# EAGLE library part STM32G030F6P6TR (library eltassan)
Arm® Cortex®-M0+ 32-bit MCU, up to 64 KB Flash, 8 KB RAM, 2x USART, timers, ADC, comm. I/Fs, 2.0-3.6V
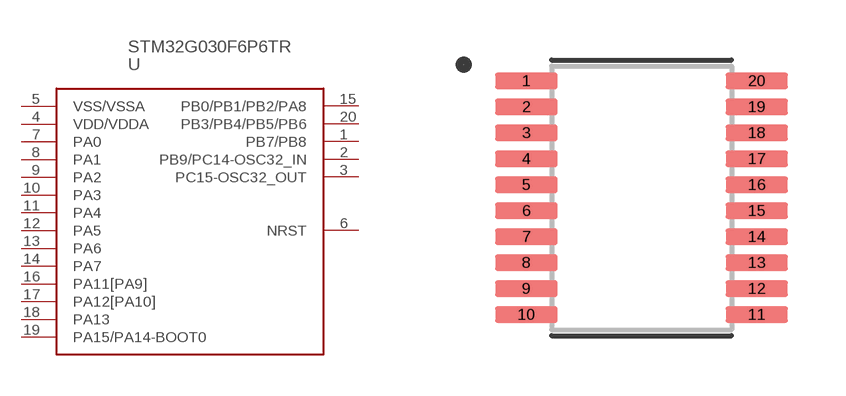
[diagram p0: symbol with the pads of TSSOP20; footprint TSSOP20]

Designator prefix U

## STM32G030F6P6TR  [TSSOP20]
1  PB7/PB8
2  PB9/PC14-OSC32_IN
3  PC15-OSC32_OUT
4  VDD/VDDA  pwr
5  VSS/VSSA  pwr
6  NRST
7  PA0
8  PA1
9  PA2
10  PA3
11  PA4
12  PA5
13  PA6
14  PA7
15  PB0/PB1/PB2/PA8
16  PA11[PA9]
17  PA12[PA10]
18  PA13
19  PA15/PA14-BOOT0
20  PB3/PB4/PB5/PB6

## Footprint TSSOP20 (pad centres in mm)
smd 1.56 x 0.41: 1 -2.88,2.925; 2 -2.88,2.275; 3 -2.88,1.625; 4 -2.88,0.975; 5 -2.88,0.325; 6 -2.88,-0.325; 7 -2.88,-0.975; 8 -2.88,-1.625; 9 -2.88,-2.275; 10 -2.88,-2.925; 11 2.88,-2.925; 12 2.88,-2.275; 13 2.88,-1.625; 14 2.88,-0.975; 15 2.88,-0.325; 16 2.88,0.325; 17 2.88,0.975; 18 2.88,1.625; 19 2.88,2.275; 20 2.88,2.925